# Altium integrated library ST Audio Tape Recorder Circuit.IntLib: 5 symbols
Pins are listed as number, name and electrical type; pins without a type are passive.

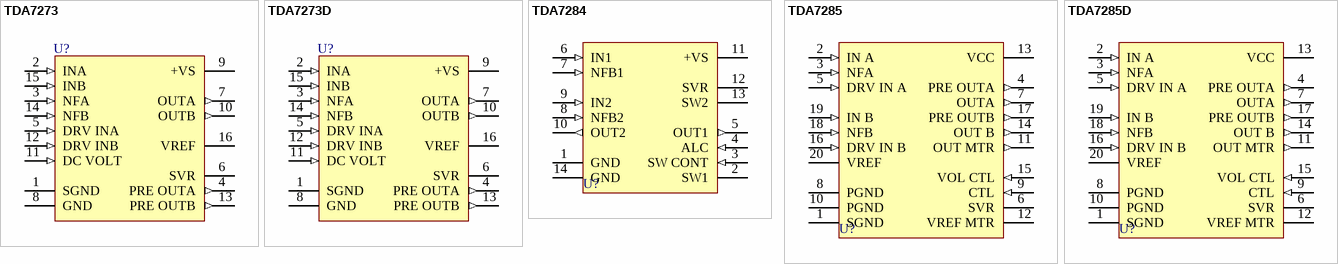
[diagram p0: symbols TDA7273 to TDA7285D]

## TDA7273
designator U?
Single Chip Stereo Cassette Playback System; Published: 24-Aug-2001; LatestRevisionDate: 6-Jun-2005; LatestRevisionNote: Stylized 3D Model Added.; DatasheetDocument: May-1997; PackageDocument: Apr-1996; PackageReference: DIP16; Publisher: Altium Limited; ComponentLink1Description: Manufacturer Link; ComponentLink1URL: http://www.st.com/
footprint DIP16 (DIP; 16 Leads; Row Spacing 7.62 mm; Pitch 2.54 mm)
3D model DIP16 (DIP; 16 Leads; Row Spacing 7.62 mm; Pitch 2.54 mm)
pins: 1 SGND (power), 2 INA (in), 3 NFA (in), 4 PRE OUTA (out), 5 DRV INA (in), 6 SVR, 7 OUTA (out), 8 GND (power), 9 +VS (power), 10 OUTB (out), 11 DC VOLT (in), 12 DRV INB (in), 13 PRE OUTB (out), 14 NFB (in), 15 INB (in), 16 VREF

## TDA7273D
designator U?
Single Chip Stereo Cassette Playback System; Published: 24-Aug-2001; LatestRevisionDate: 6-Jun-2005; LatestRevisionNote: Stylized 3D Model Added.; DatasheetDocument: May-1997; PackageDocument: Apr-1998; PackageReference: SO16W; Publisher: Altium Limited; Code_JEDEC: MS-013-AA; Code_IPC: SO16W; ComponentLink1Description: Manufacturer Link; ComponentLink1URL: http://www.st.com/
footprint SO16W (Small Outline; 16 Leads; Body Width 7.5 mm; Pitch 1.27 mm)
3D model SO16W (Small Outline; 16 Leads; Body Width 7.5 mm; Pitch 1.27 mm)
pins: 1 SGND (power), 2 INA (in), 3 NFA (in), 4 PRE OUTA (out), 5 DRV INA (in), 6 SVR, 7 OUTA (out), 8 GND (power), 9 +VS (power), 10 OUTB (out), 11 DC VOLT (in), 12 DRV INB (in), 13 PRE OUTB (out), 14 NFB (in), 15 INB (in), 16 VREF

## TDA7284
designator U?
Record/Playback Circuit with ALC; Published: 24-Aug-2001; LatestRevisionDate: 6-Jun-2005; LatestRevisionNote: Stylized 3D Model Added.; DatasheetDocument: May-1997; PackageDocument: Sep-1998; PackageReference: SO14; Publisher: Altium Limited; ComponentLink1Description: Manufacturer Link; ComponentLink1URL: http://www.st.com/
footprint SO14 (Small Outline; 14 Leads; Body Width 3.9 mm; Pitch 1.27 mm)
3D model SO14 (Small Outline; 14 Leads; Body Width 3.9 mm; Pitch 1.27 mm)
pins: 1 GND (power), 2 SW1, 3 SW CONT (in), 4 ALC (in), 5 OUT1 (out), 6 IN1 (in), 7 NFB1 (in), 8 NFB2 (in), 9 IN2 (in), 10 OUT2 (out), 11 +VS (power), 12 SVR, 13 SW2, 14 GND (power)

## TDA7285
designator U?
Stereo Cassette Player and Motor Speed Controller; Published: 24-Aug-2001; LatestRevisionDate: 6-Jun-2005; LatestRevisionNote: Stylized 3D Model Added.; DatasheetDocument: May-1997; PackageDocument: Jun-1998; PackageReference: DIP20; Publisher: Altium Limited; Code_JEDEC: MS-015-AE; ComponentLink1Description: Manufacturer Link; ComponentLink1URL: http://www.st.com/
footprint DIP20 (DIP; 20 Leads; Row Spacing 7.62 mm; Pitch 2.54 mm)
3D model DIP20 (DIP; 20 Leads; Row Spacing 7.62 mm; Pitch 2.54 mm)
pins: 1 SGND (power), 2 IN A (in), 3 NFA (in), 4 PRE OUTA (out), 5 DRV IN A (in), 6 SVR, 7 OUTA (out), 8 PGND (power), 9 CTL (in), 10 PGND (power), 11 OUT MTR (out), 12 VREF MTR, 13 VCC (power), 14 OUT B (out), 15 VOL CTL (in), 16 DRV IN B (in), 17 PRE OUTB (out), 18 NFB (in), 19 IN B (in), 20 VREF

## TDA7285D
designator U?
Stereo Cassette Player and Motor Speed Controller; Published: 24-Aug-2001; LatestRevisionDate: 6-Jun-2005; LatestRevisionNote: Stylized 3D Model Added.; DatasheetDocument: May-1997; PackageDocument: Jul-2001; PackageReference: SO20; Publisher: Altium Limited; Code_JEDEC: MS-013-AC; Code_IPC: SO20W; ComponentLink1Description: Manufacturer Link; ComponentLink1URL: http://www.st.com/
footprint SO20 (Small Outline, Plastic; 20 Leads; Body Width 7.5 mm; Pitch 1.27 mm)
3D model SO20 (Small Outline, Plastic; 20 Leads; Body Width 7.5 mm; Pitch 1.27 mm)
pins: 1 SGND (power), 2 IN A (in), 3 NFA (in), 4 PRE OUTA (out), 5 DRV IN A (in), 6 SVR, 7 OUTA (out), 8 PGND (power), 9 CTL (in), 10 PGND (power), 11 OUT MTR (out), 12 VREF MTR, 13 VCC (power), 14 OUT B (out), 15 VOL CTL (in), 16 DRV IN B (in), 17 PRE OUTB (out), 18 NFB (in), 19 IN B (in), 20 VREF